# Altium schematic symbol library DCPS3.SchLib: 1 symbol
Pins are listed as number, name and electrical type; pins without a type are passive.

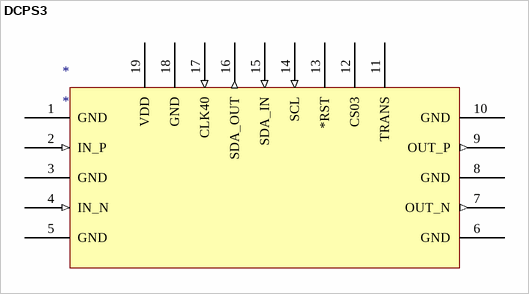
[diagram p0: symbol DCPS3]

## DCPS3
designator *
footprint DCPS3-Narrow
pins: 1 GND, 2 IN_P (in), 3 GND, 4 IN_N (in), 5 GND, 6 GND, 7 OUT_N (out), 8 GND, 9 OUT_P (out), 10 GND, 11 TRANS, 12 CS03, 13 *RST, 14 SCL (in), 15 SDA_IN (in), 16 SDA_OUT (out), 17 CLK40 (in), 18 GND, 19 VDD